# EAGLE library part RPI_2X13 (library gbin)
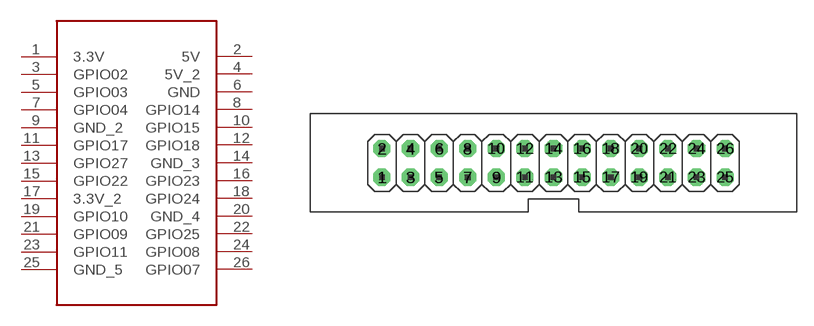
[diagram p1: symbol with the pads of 2X13; footprint 2X13]

Designator prefix -

## RPI_2X13  [2X13]
1  3.3V  pwr
2  5V  pwr
3  GPIO02
4  5V_2  pwr
5  GPIO03
6  GND  pwr
7  GPIO04
8  GPIO14
9  GND_2  pwr
10  GPIO15
11  GPIO17
12  GPIO18
13  GPIO27
14  GND_3  pwr
15  GPIO22
16  GPIO23
17  3.3V_2  pwr
18  GPIO24
19  GPIO10
20  GND_4  pwr
21  GPIO09
22  GPIO25
23  GPIO11
24  GPIO08
25  GND_5  pwr
26  GPIO07

## Footprint 2X13 (pad centres in mm)
Raspberry Pi shrouded GPIO pin header
drill 1.016 octagon: 1 -15.24,-1.27; 2 -15.24,1.27; 3 -12.7,-1.27; 4 -12.7,1.27; 5 -10.16,-1.27; 6 -10.16,1.27; 7 -7.62,-1.27; 8 -7.62,1.27; 9 -5.08,-1.27; 10 -5.08,1.27; 11 -2.54,-1.27; 12 -2.54,1.27; 13 0,-1.27; 14 0,1.27; 15 2.54,-1.27; 16 2.54,1.27; 17 5.08,-1.27; 18 5.08,1.27; 19 7.62,-1.27; 20 7.62,1.27; 21 10.16,-1.27; 22 10.16,1.27; 23 12.7,-1.27; 24 12.7,1.27; 25 15.24,-1.27; 26 15.24,1.27